# Altium schematic symbol library BLM_2017.SchLib: 2 symbols
Pins are listed as number, name and electrical type; pins without a type are passive.

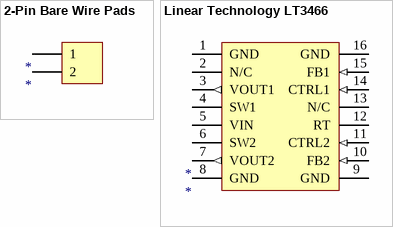
[diagram p0: symbols 2-Pin Bare Wire Pads to Linear Technology LT3466]

## 2-Pin Bare Wire Pads
designator *
2-Pin Bare Wire Pads
footprint 2-Pin Bare Wire Pads
pins: 1, 2

## Linear Technology LT3466
designator *
2-Channel Step-Up LED Driver; Supplier 1: Digi-Key; Supplier Part Number 1: LT3466EFE#PBF-ND
footprint Linear Technology LT3466 (8-TSSOP) (2-Channel Step-Up LED Driver)
pins: 1 GND (power), 2 N/C, 3 VOUT1 (out), 4 SW1, 5 VIN, 6 SW2, 7 VOUT2 (out), 8 GND (power), 9 GND (power), 10 FB2 (in), 11 CTRL2 (in), 12 RT, 13 N/C, 14 CTRL1 (in), 15 FB1 (in), 16 GND (power)